# Altium schematic symbol library 10mm_Y1_SurgeCAP_THT.SchLib: 1 symbol
Pins are listed as number, name and electrical type; pins without a type are passive.

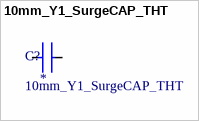
[diagram p0: symbol 10mm_Y1_SurgeCAP_THT]

## 10mm_Y1_SurgeCAP_THT
designator C?
Y1 Suppression Capacitors ROHS; LCSC: *
footprint 10mm_Y1_SurgeCAP_THT
pins: 1, 2